# Altium footprint library HDMI.PcbLib: 1 footprints
Each footprint in its own frame and in the unit in brackets; x right, y up, seen from the top. Pads: shape width x height; smd on the part's side, far side on the other; paste and mask are expansions set on the pad; w line width, h text height; cw(c..) or ccw(c..) is an arc to the next point about the centre after c.
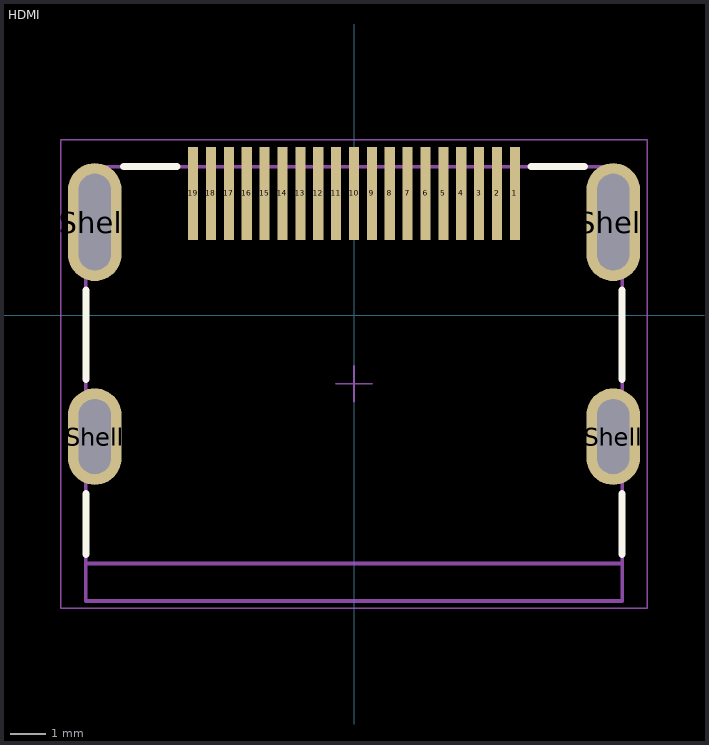
[diagram p0: the footprint, top view; thin cyan lines are the x and y axes]

## HDMI [mm]
pads (23):
  rect 0.28x2.6 smd: 1(4.5,3.4) 2(4,3.4) 3(3.5,3.4) 4(3,3.4) 5(2.5,3.4) 6(2,3.4) 7(1.5,3.4) 8(1,3.4) 9(0.5,3.4) 10(0,3.4) 11(-0.5,3.4) 12(-1,3.4) 13(-1.5,3.4) 14(-2,3.4) 15(-2.5,3.4) 16(-3,3.4) 17(-3.5,3.4) 18(-4,3.4) 19(-4.5,3.4)
  oval 1.5x2.7 hole 0.9 slot 2.1 at 90 deg: Shell(-7.25,-3.4) Shell(7.25,-3.4)
  oval 1.5x3.3 hole 0.9 slot 2.7 at 90 deg: Shell(-7.25,2.6) Shell(7.25,2.6)
Top Overlay:
  lines w0.2: -7.5,-6.7 -7.5,-5 ; -7.5,-1.8 -7.5,0.7 ; -6.45,4.15 -4.95,4.15 ; 4.95,4.15 6.45,4.15 ; 7.5,-6.7 7.5,-5 ; 7.5,-1.8 7.5,0.7
Mechanical 2:
  lines w0.1: -7.5,-6.95 7.5,-6.95
  text "PCB Edge" at -1.989,-7.805 h0.61
Top Component Outline:
  lines w0.1: 7.5,4.15 7.5,-8 -7.5,-8 -7.5,4.15 7.5,4.15
Top Courtyard:
  lines w0.05: -0.5,-1.925 0.5,-1.925 ; 0,-2.425 0,-1.425 ; -8.2,-8.2 -8.2,4.9 8.2,4.9 8.2,-8.2 -8.2,-8.2
3D body "Conn_Molex_208658-1051_eec.STEP": height 6.44, standoff -2.45, extent -7.5,-8 7.5,4.15